# Altium schematic symbol library atum.SchLib: 1 symbol
Pins are listed as number, name and electrical type; pins without a type are passive.

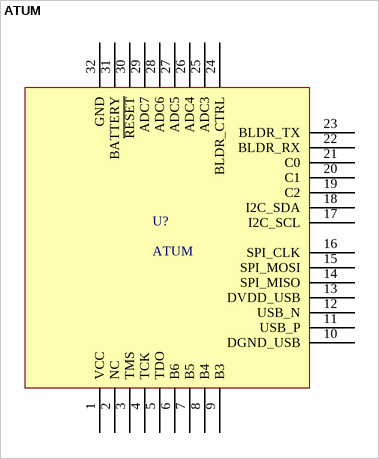
[diagram p0: symbol ATUM]

## ATUM
designator U?
footprint ATUM
pins: 1 VCC, 2 NC, 3 TMS, 4 TCK, 5 TDO, 6 B6, 7 B5, 8 B4, 9 B3, 10 DGND_USB, 11 USB_P, 12 USB_N, 13 DVDD_USB, 14 SPI_MISO, 15 SPI_MOSI, 16 SPI_CLK, 17 I2C_SCL, 18 I2C_SDA, 19 C2, 20 C1, 21 C0, 22 BLDR_RX, 23 BLDR_TX, 24 BLDR_CTRL, 25 ADC3, 26 ADC4, 27 ADC5, 28 ADC6, 29 ADC7, 30 ~{RESET}, 31 BATTERY, 32 GND